# Altium schematic symbol library LibTim_Misc.SchLib: 19 symbols
Pins are listed as number, name and electrical type; pins without a type are passive.

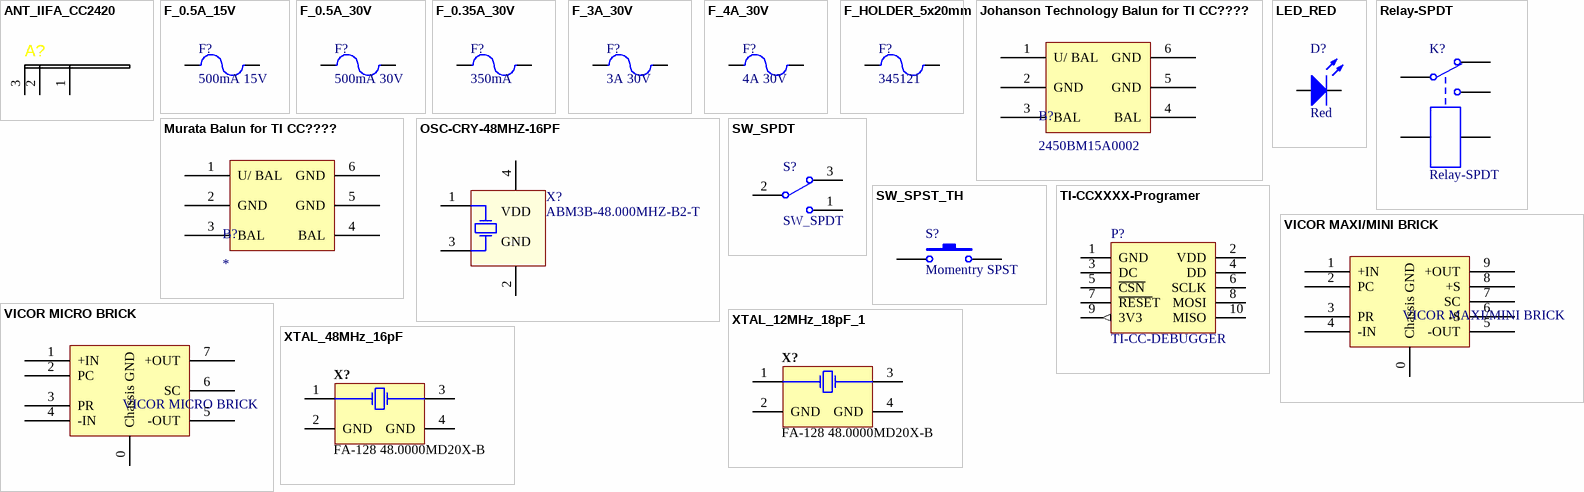
[diagram p0: symbols ANT_IIFA_CC2420 to XTAL_48MHz_16pF]

## ANT_IIFA_CC2420
designator A?  (value not drawn)
Antenna single ended IIFA, CC2420
footprint antenna_IIFA_cc2420
pins: 1, 2, 3

## F_0.5A_15V
designator F?, comment 500mA 15V
Resettable Fuses - PTC 0.5A 15VDC; Manufacturer: Littlefuse; PartNumber: 1812L050; Value: 0.5A
simulation model FUSE (Spice Subcircuit)
footprint LITTLEFUSE_1812L050
pins: 1, 2

## F_0.5A_30V
designator F?, comment 500mA 30V
Resettable Fuses - PTC 0.5A 30VDC; Manufacturer: Littlefuse; PartNumber: 1812L050/30; Value: 0.5A; RatedVoltage: 30 V
simulation model FUSE (Spice Subcircuit)
footprint LITTLEFUSE_1812L050/30
pins: 1, 2

## F_0.35A_30V
designator F?, comment 350mA
Resettable Fuses - PTC 0.35A 30VDC; Manufacturer: Littlefuse; PartNumber: 1812L035/30; RatedVoltage: 30 V; Value: 0.35A
simulation model FUSE (Spice Subcircuit)
footprint LITTLEFUSE_1812L035/30
pins: 1, 2

## F_3A_30V
designator F?, comment 3A 30V
Resettable Fuses - PTC 30V 3A-HD 40A MAX; Manufacturer: Littlefuse; PartNumber: 30R300U; PackageDescription: Thru-Hole; 2 Leads; Value: 3A
simulation model FUSE (Spice Subcircuit)
pins: 1, 2

## F_4A_30V
designator F?, comment 4A 30V
Resettable Fuses - PTC 30V 4A-HD 40A MAX; Manufacturer: Littlefuse; PartNumber: 30R400U; PackageDescription: Thru-Hole; 2 Leads; Value: 4A
simulation model FUSE (Spice Subcircuit)
footprint LITTLEFUSE_30R400U
pins: 1, 2

## F_HOLDER_5x20mm
designator F?, comment 345121
5x20mm PCB Mount Fuse Holder; Manufacturer: LITTLEFUSE; PartNumber: 345121; PackageReference: LITTLEFUSE_345121
simulation model FUSE (Spice Subcircuit)
footprint LITTLEFUSE_345121 (5x20mm PCB Mount Fuse Holder)
pins: 1, 2

## Johanson Technology Balun for TI CC????
designator B?, comment 2450BM15A0002
2.45 GHz Impedance Matched Balun-BPF: For TI CC253X, CC254X, CC257X, CC853X and CC852X Chipset famil; Manufacturer: Johanson Technology; PackageDescription: Chip Array, Flat, 6-Leads, Pitch 0.65mm,  Body 2.00x1.25mm,  IPC Low Density; PartNumber: 2450BM15A0002; PackageReference: CAF-65P200X125-6M; ComponentLink1Description: Manufacturer URL; ComponentLink1URL: http://www.johansontechnology.com/; ComponentLink2Description: Datasheet; ComponentLink2URL: http://www.johansontechnology.com/datasheets/baluns-matched/2450BM15A0002.pdf
footprint CAF-65P200X125-6M (Chip Array, Flat, 6-Leads, Pitch 0.65mm,  Body 2.00x1.25mm,  IPC Low Density)
pins: 1 U/ BAL, 2 GND, 3 BAL, 4 BAL, 5 GND, 6 GND

## LED_RED
designator D?, comment Red
RED GaAs LED; PackageDescription: LED; 2 Leads; Color: Red
simulation model LED1 (Diode)
pins: 1 A, 2 K

## Murata Balun for TI CC????
designator B?
Integrated Balun for Texas Instruments' CC253x, CC254x, CC257x and CC85xx; Manufacturer: Murata; PartNumber: LFB182G45BG2D280; PackageDescription: Chip Array, Flat, 6-Leads, Pitch 0.50mm,  Body 1.60x0.80mm,  IPC Low Density; PackageReference: CAF-50P159X79-6M
footprint CAF-50P159X79-6M (Chip Array, Flat, 6-Leads, Pitch 0.50mm,  Body 1.60x0.80mm,  IPC Low Density)
pins: 1 U/ BAL, 2 GND, 3 BAL, 4 BAL, 5 GND, 6 GND

## OSC-CRY-48MHZ-16PF
designator X?, comment ABM3B-48.000MHZ-B2-T
Manufacturer: Epson; Frequency: 48 MHz; Frequency Tolerance: 30 ppm; ComponentLink1Description: Manufacturer URL; Mounting Technology: Surface Mount; ComponentLink2Description: Datasheet; PartNumber: ABM3B-48.000MHZ-B2-T
footprint ABRA-ASH7K-4_V (Hand Drawn, 4-Leads, Body 3.2x1.5mm)
pins: 1 VIO (power), 2 GND (power), 3 Output (hiz), 4 VDD (power)

## Relay-SPDT
designator K?
SPDT Relay
simulation model SPDTRELAY (Spice Subcircuit)
footprint JAYCAR_SY4066
pins: 1, 2, 3, 4, 5

## SW_SPDT
designator S?
SPDT Slide switch; PartNumber: 1825255-1; Manufacturer: TE Connectivity; PackageReference: TE_1825255-1; PackageDescription: Switch; 3 Leads; ComponentLink1Description: Manufacturer Link; ComponentLink1URL: http://www.te.com; ComponentLink2Description: Datasheet; ComponentLink2URL: http://www.te.com/commerce/DocumentDelivery/DDEController?Action=showdoc&DocId=Customer+Drawing%7F1825255%7FA4%7Fpdf%7FEnglish%7FENG_CD_1825255_A4_baseFilename.pdf%7F1825255-1
footprint TE_1825255-1
pins: 1, 2, 3

## SW_SPST_TH
designator S?, comment Momentry SPST
SPST Momentry Button; Manufacturer: Omron; PartNumber: B3F-1000; PackageReference: OMRON_B3F-1000; PackageDescription: Switch; 4 Leads; ComponentLink1Description: Manufacturer URL; ComponentLink1URL: https://www.omron.com/; ComponentLink2Description: Datasheet; ComponentLink2URL: https://www.omron.com/ecb/products/pdf/en-b3f.pdf
footprint OMRON_B3F-1000
pins: 1, 3

## TI-CCXXXX-Programer
designator P?, comment TI-CC-DEBUGGER
Header, 5-Pin, Dual row
signal-integrity model Connector
footprint TI_CC_DEBUGGER
pins: 1 GND, 2 VDD, 3 DC, 4 DD, 5 ~{CSN}, 6 SCLK, 7 ~{RESE}T, 8 MOSI, 9 3V3 (out), 10 MISO

## VICOR MAXI/MINI BRICK
designator ?
Manufacturer: Vicor
footprint FASTRAK_MAXI_MINI_ONBOARD_MOUNT
pins: 0 Chassis GND, 1 +IN (power), 2 PC, 3 PR, 4 -IN (power), 5 -OUT (power), 6 -S, 7 SC, 8 +S, 9 +OUT (power)

## VICOR MICRO BRICK
designator ?
Manufacturer: Vicor
footprint FASTRAK_MICRO_ONBOARD_MOUNT
pins: 0 Chassis GND, 1 +IN (power), 2 PC, 3 PR, 4 -IN (power), 5 -OUT (power), 6 SC, 7 +OUT (power)

## XTAL_12MHz_18pF_1
designator X?, comment FA-128 48.0000MD20X-B
Range Crystal Unit, 25 MHz, -40 to 85 degC, 4-Pin SMD, RoHS, Tape and Reel; Manufacturer: Epson; Frequency: 48 MHz; PartNumber: FA-128 48.0000MD20X-B; ComponentLink2Description: Datasheet; PackageDescription: 4-Pin Surface Mount Device, Body 1.6 x 2 mm, Pitch 1.45 mm; ComponentLink1Description: Manufacturer URL; ComponentLink1URL: https://www.eea.epson.com/; ComponentLink2URL: https://support.epson.biz/td/api/doc_check.php?dl=brief_FA-128_en.pdf; Mounting Technology: Surface Mount; PackageReference: EPSON_FA-128_V
footprint EPSON_FA-128_V (SMD, 4-Leads, Body 2x1.6mm, Pitch 1.45mm)
pins: 1 X1, 2 GND (power), 3 X2, 4 GND (power)

## XTAL_48MHz_16pF
designator X?, comment FA-128 48.0000MD20X-B
Range Crystal Unit, 25 MHz, -40 to 85 degC, 4-Pin SMD, RoHS, Tape and Reel; Manufacturer: Epson; Frequency: 48 MHz; PartNumber: FA-128 48.0000MD20X-B; ComponentLink2Description: Datasheet; PackageDescription: 4-Pin Surface Mount Device, Body 1.6 x 2 mm, Pitch 1.45 mm; ComponentLink1Description: Manufacturer URL; ComponentLink1URL: https://www.eea.epson.com/; ComponentLink2URL: https://support.epson.biz/td/api/doc_check.php?dl=brief_FA-128_en.pdf; Mounting Technology: Surface Mount; PackageReference: EPSON_FA-128_V
footprint EPSON_FA-128_V (SMD, 4-Leads, Body 2x1.6mm, Pitch 1.45mm)
pins: 1 X1, 2 GND (power), 3 X2, 4 GND (power)